# Altium footprint library Vishay_Semiconductor_S1G_E3_61T_1.PcbLib: 1 footprints
Each footprint in its own frame and in the unit in brackets; x right, y up, seen from the top. Pads: shape width x height; smd on the part's side, far side on the other; paste and mask are expansions set on the pad; w line width, h text height; cw(c..) or ccw(c..) is an arc to the next point about the centre after c.
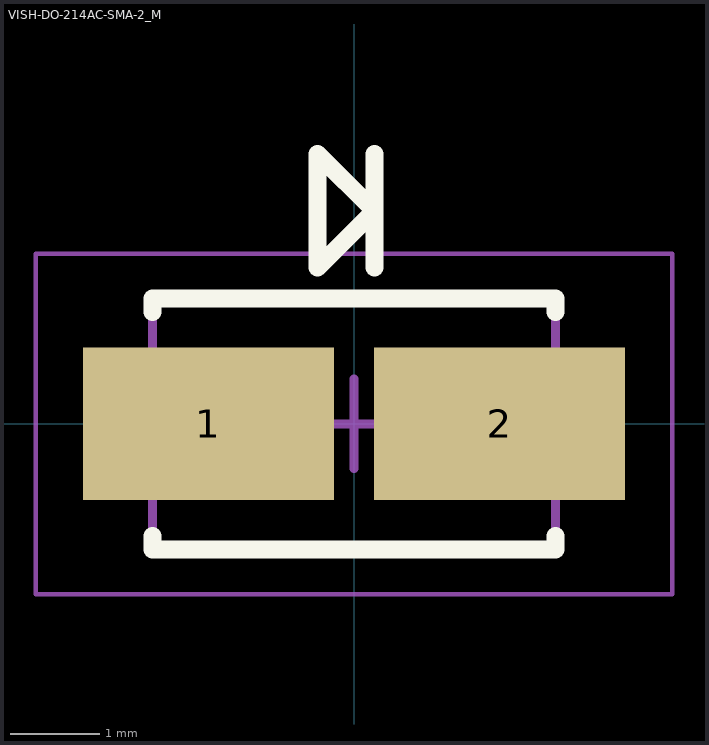
[diagram p0: the footprint, top view; thin cyan lines are the x and y axes]

## VISH-DO-214AC-SMA-2_M [mm] "Molded Diode, 2-Leads, Body 4.5x2.79mm, IPC Low Density"
height 2.29
pads (2):
  rect 2.8x1.7 smd: 1(-1.625,0) 2(1.625,0)
Top Overlay:
  lines w0.2: -2.25,-1.25 -2.25,-1.4 2.25,-1.4 2.25,-1.25 ; -2.25,1.25 -2.25,1.4 2.25,1.4 2.25,1.25 ; 0.227,1.742 0.227,3.012 ; -0.408,1.742 -0.408,3.012 0.227,2.377 -0.408,1.742
Mechanical 13:
  lines w0.1: -2.25,-1.395 -2.25,1.395 2.25,1.395 2.25,-1.395 -2.25,-1.395
Mechanical 15:
  lines w0.05: -3.55,-1.9 -3.55,1.9 3.55,1.9 3.55,-1.9 -3.55,-1.9
  lines w0.1: -0.5,0 0.5,0 ; 0,-0.5 0,0.5
3D body "DO-214AC_SMA.step": height 2.2, standoff 0, extent -2.5,-1.35 2.5,1.35